# Altium footprint library UC383_5.PcbLib: 1 footprints
Each footprint in its own frame and in the unit in brackets; x right, y up, seen from the top. Pads: shape width x height; smd on the part's side, far side on the other; paste and mask are expansions set on the pad; w line width, h text height; cw(c..) or ccw(c..) is an arc to the next point about the centre after c.
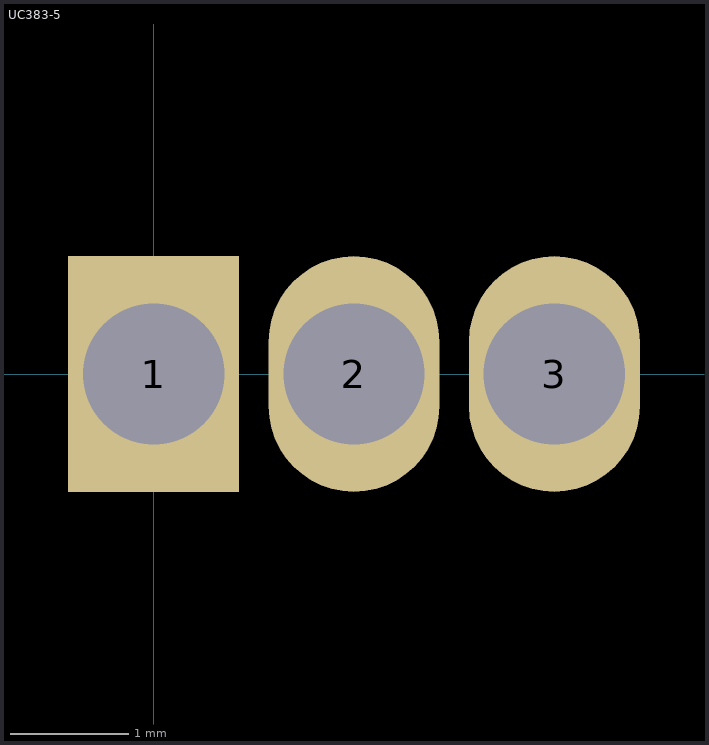
[diagram p0: the footprint, top view; thin cyan lines are the x and y axes]

## UC383-5 [mm] "TO-220 power package"
height 16.51
pads (3):
  rrect0% 1.45x2 hole 1.2 mask+0.07: 1(0,0)
  rrect100% 1.45x2 hole 1.2 mask+0.07: 2(1.7,0) 3(3.4,0)